# EAGLE library part SOMO-14D (library 4D-Systems)
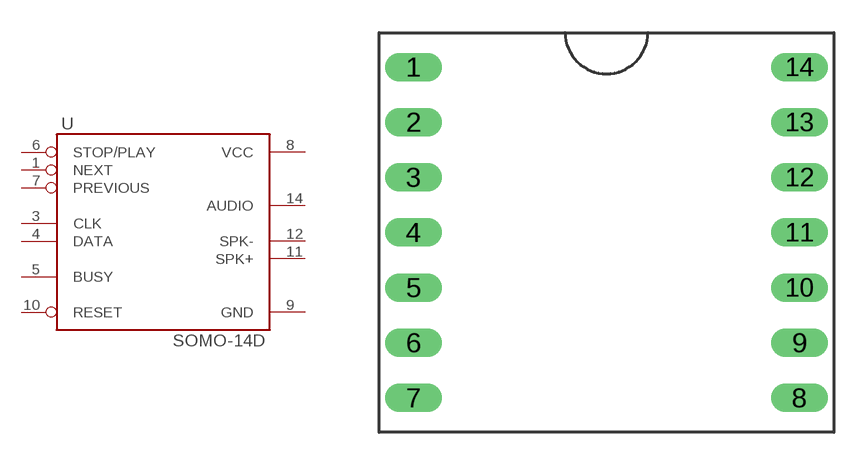
[diagram p0: symbol with the pads of SOMO-14D; footprint SOMO-14D]

Designator prefix -

## SOMO-14D  [SOMO-14D]
1  NEXT
3  CLK
4  DATA
5  BUSY
6  STOP/PLAY
7  PREVIOUS
8  VCC  pwr
9  GND  pwr
10  RESET
11  SPK+
12  SPK-
14  AUDIO

## Footprint SOMO-14D (pad centres in mm)
drill 0.8 long: 1 -8.89,7.62; 2 -8.89,5.08; 3 -8.89,2.54; 4 -8.89,0; 5 -8.89,-2.54; 6 -8.89,-5.08; 7 -8.89,-7.62; 8 8.89,-7.62; 9 8.89,-5.08; 10 8.89,-2.54; 11 8.89,0; 12 8.89,2.54; 13 8.89,5.08; 14 8.89,7.62